# EAGLE library part 61000813321 (library Wuerth_Elektronik_eiCan_Pin_&_Socked_Headers_v1.3)
WR-PHD 2.54mm SMT Socket Header, 8 Pins
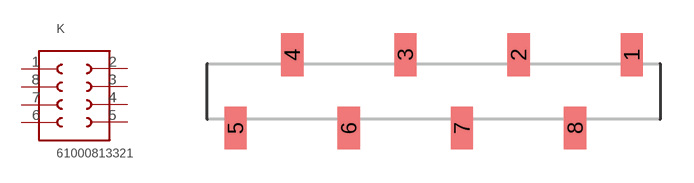
[diagram p241: symbol with the pads of 61000813321; footprint 61000813321]

Designator prefix K

## 61000813321  [61000813321]
1  1  pas
2  8  pas
3  7  pas
4  6  pas
5  5  pas
6  4  pas
7  3  pas
8  2  pas

## Footprint 61000813321 (pad centres in mm)
WR-PHD 2.54mm SMT Socket Header, 8 Pins
smd 1 x 1.91: 1 8.89,1.645; 2 3.81,1.645; 3 -1.27,1.645; 4 -6.35,1.645; 5 -8.89,-1.645; 6 -3.81,-1.645; 7 1.27,-1.645; 8 6.35,-1.645